# EAGLE library part JACK_NJ6FD-V (library wheat)
Neutrik NJ6FD-V 1/4" vert jack w/ 3 swicthes
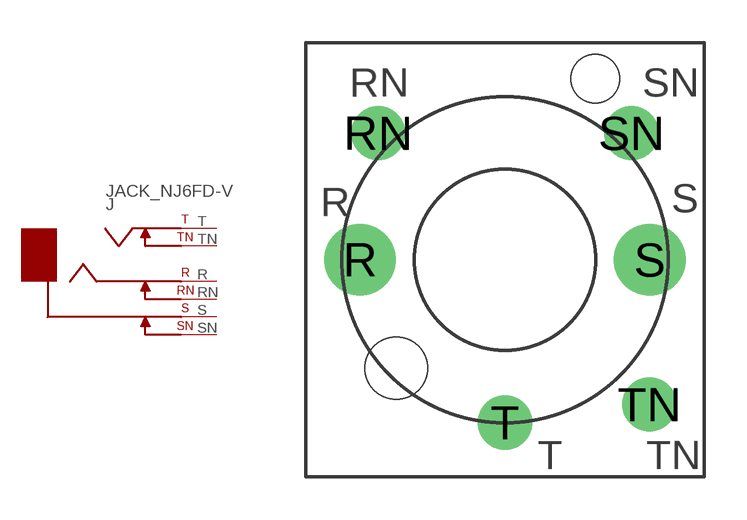
[diagram p137: symbol with the pads of JACK_NJ6FD-V; footprint JACK_NJ6FD-V]

Designator prefix J

## JACK_NJ6FD-V  [JACK_NJ6FD-V]
R  R  pas
RN  RN  pas
S  S  pas
SN  SN  pas
T  T  pas
TN  TN  pas

## Footprint JACK_NJ6FD-V (pad centres in mm)
drill 1.676: R -5.08,0; S 5.08,0
drill 1.27: RN -4.445,4.445; SN 4.445,4.445; T 0,-5.715; TN 5.075,-5.08
hole 2.184 at -3.81,-3.81
hole 1.702 at 3.175,6.35